# EAGLE library part PSU-V2 (library cdp)
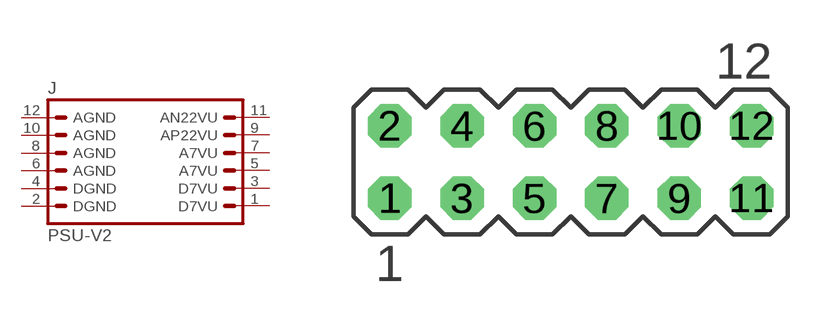
[diagram p29: symbol with the pads of MA06-2; footprint MA06-2]

Designator prefix J

## PSU-V2  [MA06-2]
1  D7VU  pas
2  DGND  pas
3  D7VU  pas
4  DGND  pas
5  A7VU  pas
6  AGND  pas
7  A7VU  pas
8  AGND  pas
9  AP22VU  pas
10  AGND  pas
11  AN22VU  pas
12  AGND  pas

## Footprint MA06-2 (pad centres in mm)
PIN HEADER
drill 1.016 octagon: 1 -6.35,-1.27; 2 -6.35,1.27; 3 -3.81,-1.27; 4 -3.81,1.27; 5 -1.27,-1.27; 6 -1.27,1.27; 7 1.27,-1.27; 8 1.27,1.27; 9 3.81,-1.27; 10 3.81,1.27; 11 6.35,-1.27; 12 6.35,1.27